# Altium footprint library IMTP Конденсаторы.PcbLib: 23 footprints (part 2 of 2)
Each footprint in its own frame and in the unit in brackets; x right, y up, seen from the top. Pads: shape width x height; smd on the part's side, far side on the other; paste and mask are expansions set on the pad; w line width, h text height; cw(c..) or ccw(c..) is an arc to the next point about the centre after c.
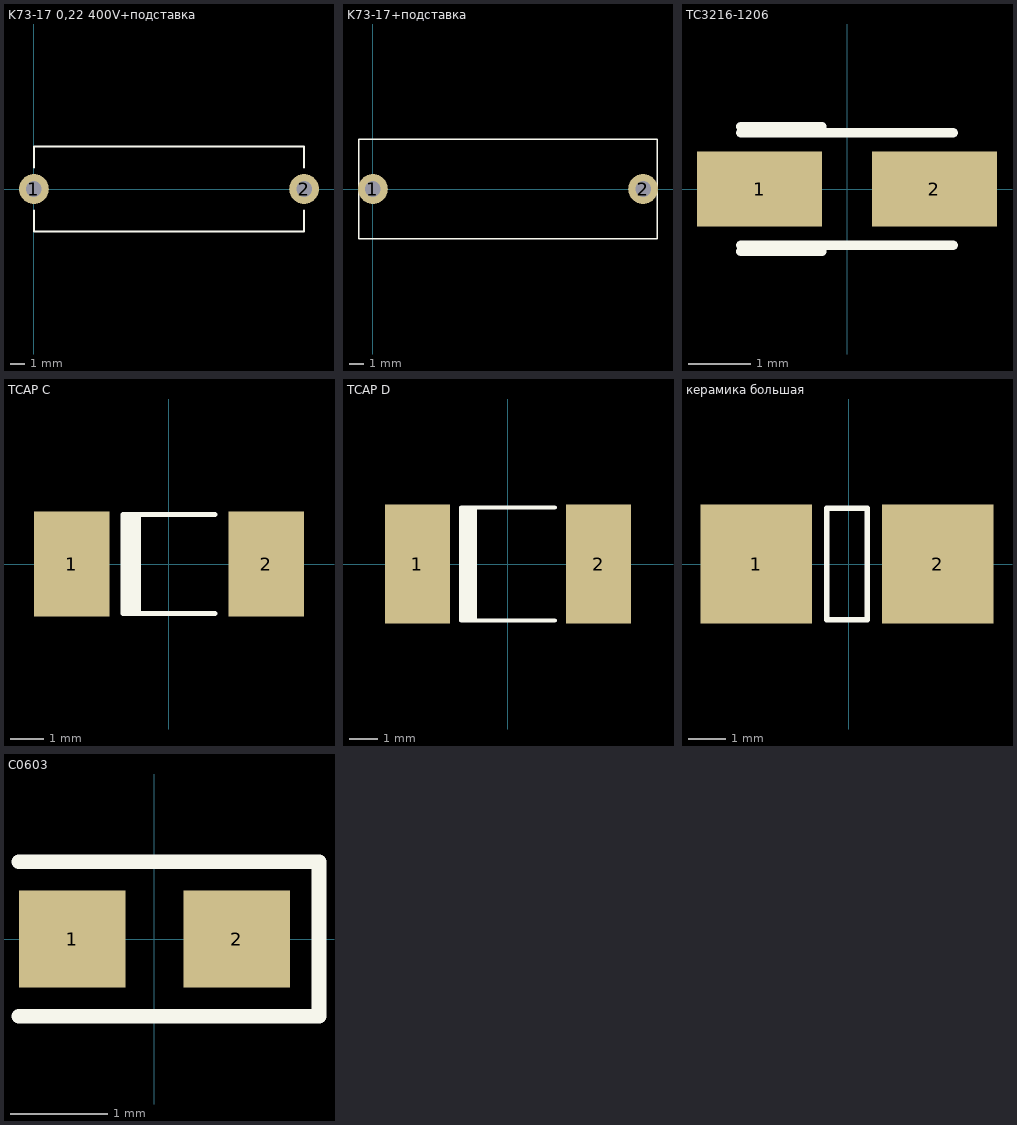
[diagram p1: the footprints below, top view; thin cyan lines are the x and y axes]

## K73-17 0,22 400V+подставка [mm]
pads (2):
  round 2.1 hole 1.1: 1(0,0) 2(19,0)
Top Overlay:
  lines w0.15: 0,-1.5 0,-3 19,-3 19,-1.5 ; 0,1.5 0,3 19,3 19,1.5
3D body: height 19, standoff 0, extent 0,-3 19,3

## K73-17+подставка [mm]
height 23
pads (2):
  round 2.1 hole 1.1: 1(0,0) 2(19,0)
Top Overlay:
  lines w0.1: -1,-3.5 20,-3.5 20,3.5 -1,3.5 -1,-3.5
3D body: height 23, standoff 0, extent -1,-3.5 20,3.5

## TC3216-1206 [mm] "Capacitor, SM Tantalum; Body 3.2 x 1.6 mm (LxW typ)"
height 2.2
pads (2):
  rect 2x1.2 smd: 1(-1.4,0) 2(1.4,0)
Top Overlay:
  lines w0.15: -1.7,-1 -0.4,-1 ; -1.7,-0.9 1.7,-0.9 ; -1.7,0.9 1.7,0.9 ; -1.7,1 -0.4,1
3D body: height 1.8, standoff -0.04, extent -2.4,-0.9 2.396,0.903

## TCAP C [mm]
pads (2):
  rect 2.3x3.2 smd: 1(-2.95,0) 2(2.95,0)
Top Overlay:
  rectangle: -1.4,-1.5 -0.85,1.5
  lines w0.15: 1.4,-1.5 -1.4,-1.5 -1.4,1.5 1.4,1.5
3D body: height 2.79, standoff -0.04, extent -3.799,-1.735 3.799,1.778

## TCAP D [mm]
pads (2):
  rect 2.3x4.2 smd: 1(-3.2,0) 2(3.2,0)
Top Overlay:
  rectangle: -1.65,-2 -1.1,2
  lines w0.15: 1.65,-2 -1.65,-2 -1.65,2 1.65,2
3D body: height 2.8, standoff 0, extent -3.746,-2.159 3.746,2.159

## керамика большая [mm]
pads (2):
  rect 3x3.2 smd: 1(-2.5,0) 2(2.4,0)
Top Overlay:
  lines w0.15: -0.6,-1.5 0.5,-1.5 0.5,1.5 -0.6,1.5 -0.6,-1.5
3D body: height 2.79, standoff -0.04, extent -3.799,-1.735 3.799,1.778

## С0603 [mm] "Чип резистор; Размер 2 x 1.3 мм (Д x Ш)"
height 0.6
pads (2):
  rect 1.1x1 smd: 1(-0.85,0) 2(0.85,0)
Top Overlay:
  lines w0.15: -1.4,-0.8 1.7,-0.8 1.7,0.8 -1.4,0.8
3D body: height 0.86, standoff -0.04, extent -1.3,-0.5 1.3,0.5